# Altium footprint library FPC0.5.PcbLib: 38 footprints (part 1 of 3)
Each footprint in its own frame and in the unit in brackets; x right, y up, seen from the top. Pads: shape width x height; smd on the part's side, far side on the other; paste and mask are expansions set on the pad; w line width, h text height; cw(c..) or ccw(c..) is an arc to the next point about the centre after c.
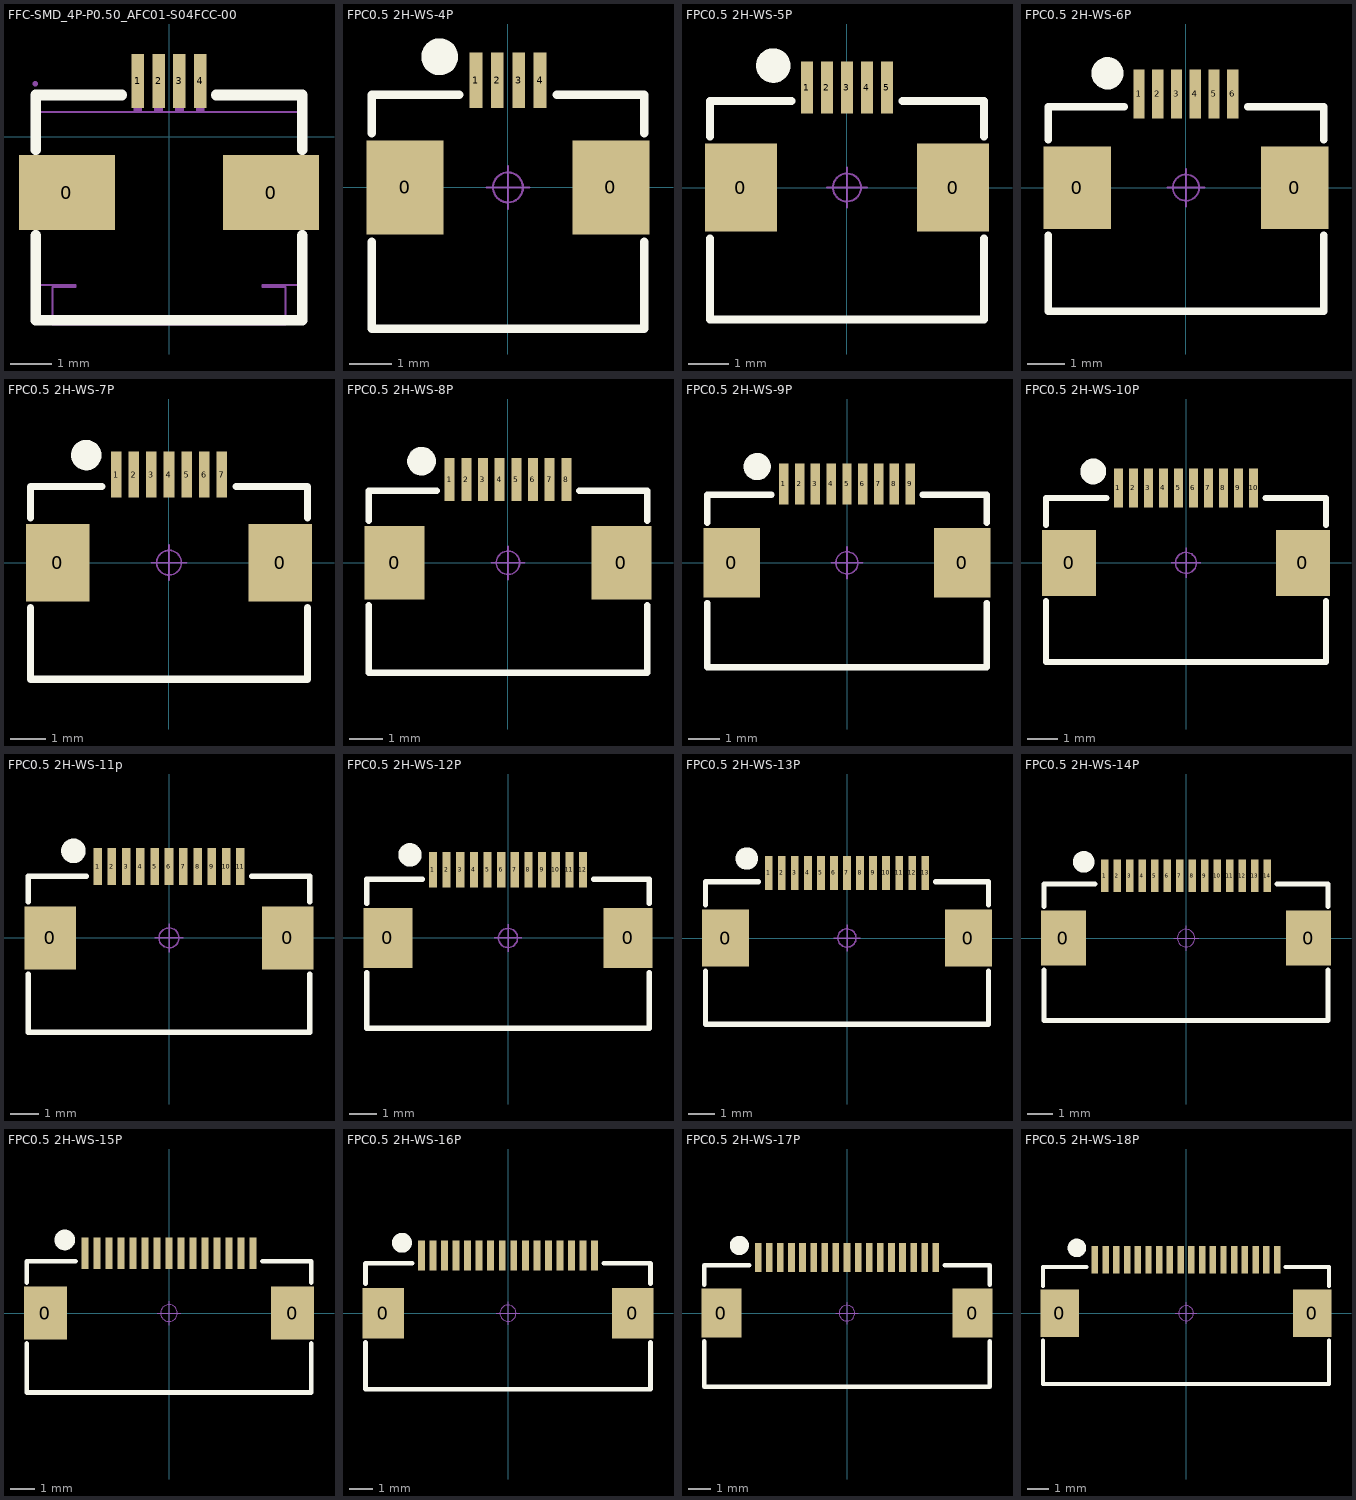
[diagram p0: the footprints below, top view; thin cyan lines are the x and y axes]

## FFC-SMD_4P-P0.50_AFC01-S04FCC-00 [mm]
pads (6):
  rect 2.3x1.8 smd: 0(-2.45,-1.34) 0(2.45,-1.34)
  rect 0.3x1.3 smd paste+0 mask+0.05: 1(-0.75,1.34) 2(-0.25,1.34) 3(0.25,1.34) 4(0.75,1.34)
Top Overlay:
  lines w0.254: -3.2,-2.371 -3.2,-4.4 3.2,-4.4 3.2,-2.371 ; -3.2,-0.309 -3.2,1 -1.131,1 ; 1.131,1 3.2,1 3.2,-0.309
Mechanical 15:
  region: -3.15,1.27 -3.15,1.295 -3.185,1.33 -3.235,1.33 -3.27,1.295 -3.27,1.27 -3.27,1.245 -3.235,1.21 -3.185,1.21 -3.15,1.245
  region: -0.65,1.27 -0.85,1.27 -0.85,0.58 -0.65,0.58
  region: -0.15,1.27 -0.35,1.27 -0.35,0.58 -0.15,0.58
  region: 0.35,1.27 0.15,1.27 0.15,0.58 0.35,0.58
  region: 0.85,1.27 0.65,1.27 0.65,0.58 0.85,0.58
  region: -1.99,-1.71 -3.2,-1.71 -3.21,-0.8 -1.99,-0.8
  region: 1.99,-0.97 3.2,-0.97 3.21,-1.88 1.99,-1.88
  lines w0.051: -3.2,-3.56 -2.25,-3.56 -2.25,-3.61 -2.8,-3.61 -2.8,-4.5 2.8,-4.5 2.8,-3.61 2.25,-3.61 2.25,-3.56 2.8,-3.56 3.2,-3.56 3.2,0.59 -3.2,0.59 -3.2,0.58 -3.2,-3.56

## FPC0.5 2H-WS-4P [mm] "长：6.2mm，宽：5.2mm，高：2mm"
pads (6):
  rect 1.8x2.2 smd: 0(-2.4,0) 0(2.4,0)
  rect 0.3x1.3 smd: 1(-0.75,2.497) 2(-0.25,2.497) 3(0.25,2.497) 4(0.75,2.497)
Top Overlay:
  circle w0.5: c-1.594,3.048 r0.18
  lines w0.2: -3.175,-1.27 -3.175,-3.302 3.175,-3.302 3.175,-1.27 ; -3.175,1.27 -3.175,2.159 -1.143,2.159 ; 1.143,2.159 3.175,2.159 3.175,1.27
Mechanical 15:
  circle w0.05: c0,0 r0.35
  lines w0.05: -0.5,0 0.5,0 ; 0,-0.5 0,0.5
3D body "FPC0.5 2H-S-W-4P.STEP": height 2, standoff -0.01, extent -3.1,-3.15 3.1,2.85

## FPC0.5 2H-WS-5P [mm] "长：6.7mm，宽：5.2mm，高：2mm"
pads (7):
  rect 1.8x2.2 smd: 0(-2.65,0) 0(2.65,0)
  rect 0.3x1.3 smd: 1(-1,2.497) 2(-0.5,2.497) 3(0,2.497) 4(0.5,2.497) 5(1,2.497)
Top Overlay:
  circle w0.5: c-1.844,3.048 r0.18
  lines w0.2: -3.425,-1.27 -3.425,-3.302 3.425,-3.302 3.425,-1.27 ; -3.425,1.27 -3.425,2.159 -1.393,2.159 ; 1.393,2.159 3.425,2.159 3.425,1.27
Mechanical 15:
  circle w0.05: c0,0 r0.35
  lines w0.05: -0.5,0 0.5,0 ; 0,-0.5 0,0.5
3D body "FPC0.5 2H-S-W-5P.STEP": height 2, standoff -0.01, extent -3.35,-3.15 3.35,2.85

## FPC0.5 2H-WS-6P [mm] "长：7.2mm，宽：5.2mm，高：2mm"
pads (8):
  rect 1.8x2.2 smd: 0(-2.9,0) 0(2.9,0)
  rect 0.3x1.3 smd: 1(-1.25,2.497) 2(-0.75,2.497) 3(-0.25,2.497) 4(0.25,2.497) 5(0.75,2.497) 6(1.25,2.497)
Top Overlay:
  circle w0.5: c-2.094,3.048 r0.18
  lines w0.2: -3.675,-1.27 -3.675,-3.302 3.675,-3.302 3.675,-1.27 ; -3.675,1.27 -3.675,2.159 -1.643,2.159 ; 1.643,2.159 3.675,2.159 3.675,1.27
Mechanical 15:
  circle w0.05: c0,0 r0.35
  lines w0.05: -0.5,0 0.5,0 ; 0,-0.5 0,0.5
3D body "FPC0.5 2H-S-W-6P.STEP": height 2, standoff -0.01, extent -3.6,-3.15 3.6,2.85

## FPC0.5 2H-WS-7P [mm] "长：7.7mm，宽：5.2mm，高：2mm"
pads (9):
  rect 1.8x2.2 smd: 0(-3.15,0) 0(3.15,0)
  rect 0.3x1.3 smd: 1(-1.5,2.497) 2(-1,2.497) 3(-0.5,2.497) 4(0,2.497) 5(0.5,2.497) 6(1,2.497) 7(1.5,2.497)
Top Overlay:
  circle w0.5: c-2.344,3.048 r0.18
  lines w0.2: -3.925,-1.27 -3.925,-3.302 3.925,-3.302 3.925,-1.27 ; -3.925,1.27 -3.925,2.159 -1.893,2.159 ; 1.893,2.159 3.925,2.159 3.925,1.27
Mechanical 15:
  circle w0.05: c0,0 r0.35
  lines w0.05: -0.5,0 0.5,0 ; 0,-0.5 0,0.5
3D body "FPC0.5 2H-S-W-7P.STEP": height 2, standoff -0.01, extent -3.85,-3.15 3.85,2.85

## FPC0.5 2H-WS-8P [mm] "长：8.2mm，宽：5.2mm，高：2mm"
pads (10):
  rect 1.8x2.2 smd: 0(-3.4,0) 0(3.4,0)
  rect 0.3x1.3 smd: 1(-1.75,2.497) 2(-1.25,2.497) 3(-0.75,2.497) 4(-0.25,2.497) 5(0.25,2.497) 6(0.75,2.497) 7(1.25,2.497) 8(1.75,2.497)
Top Overlay:
  circle w0.5: c-2.594,3.048 r0.18
  lines w0.2: -4.175,-1.27 -4.175,-3.302 4.175,-3.302 4.175,-1.27 ; -4.175,1.27 -4.175,2.159 -2.143,2.159 ; 2.143,2.159 4.175,2.159 4.175,1.27
Mechanical 15:
  circle w0.05: c0,0 r0.35
  lines w0.05: -0.5,0 0.5,0 ; 0,-0.5 0,0.5
3D body "FPC0.5 2H-S-W-8P.STEP": height 2, standoff -0.01, extent -4.1,-3.15 4.1,2.85

## FPC0.5 2H-WS-9P [mm] "长：8.7mm，宽：5.2mm，高：2mm"
pads (11):
  rect 1.8x2.2 smd: 0(-3.65,0) 0(3.65,0)
  rect 0.3x1.3 smd: 1(-2,2.497) 2(-1.5,2.497) 3(-1,2.497) 4(-0.5,2.497) 5(0,2.497) 6(0.5,2.497) 7(1,2.497) 8(1.5,2.497) 9(2,2.497)
Top Overlay:
  circle w0.5: c-2.844,3.048 r0.18
  lines w0.2: -4.425,-1.27 -4.425,-3.302 4.425,-3.302 4.425,-1.27 ; -4.425,1.27 -4.425,2.159 -2.393,2.159 ; 2.393,2.159 4.425,2.159 4.425,1.27
Mechanical 15:
  circle w0.05: c0,0 r0.35
  lines w0.05: -0.5,0 0.5,0 ; 0,-0.5 0,0.5
3D body "FPC0.5 2H-S-W-9P.STEP": height 2, standoff -0.01, extent -4.35,-3.15 4.35,2.85

## FPC0.5 2H-WS-10P [mm] "长：9.2mm，宽：5.2mm，高：2mm"
pads (12):
  rect 1.8x2.2 smd: 0(-3.9,0) 0(3.9,0)
  rect 0.3x1.3 smd: 1(-2.25,2.497) 2(-1.75,2.497) 3(-1.25,2.497) 4(-0.75,2.497) 5(-0.25,2.497) 6(0.25,2.497) 7(0.75,2.497) 8(1.25,2.497) 9(1.75,2.497) 10(2.25,2.497)
Top Overlay:
  circle w0.5: c-3.094,3.048 r0.18
  lines w0.2: -4.675,-1.27 -4.675,-3.302 4.675,-3.302 4.675,-1.27 ; -4.675,1.27 -4.675,2.159 -2.643,2.159 ; 2.643,2.159 4.675,2.159 4.675,1.27
Mechanical 15:
  circle w0.05: c0,0 r0.35
  lines w0.05: -0.5,0 0.5,0 ; 0,-0.5 0,0.5
3D body "FPC0.5 2H-S-W-10P.STEP": height 2, standoff -0.01, extent -4.6,-3.15 4.6,2.85

## FPC0.5 2H-WS-11p [mm] "长：9.7mm，宽：5.2mm，高：2mm"
pads (13):
  rect 1.8x2.2 smd: 0(-4.15,0) 0(4.15,0)
  rect 0.3x1.3 smd: 1(-2.5,2.497) 2(-2,2.497) 3(-1.5,2.497) 4(-1,2.497) 5(-0.5,2.497) 6(0,2.497) 7(0.5,2.497) 8(1,2.497) 9(1.5,2.497) 10(2,2.497) 11(2.5,2.497)
Top Overlay:
  circle w0.5: c-3.344,3.048 r0.18
  lines w0.2: -4.925,-1.27 -4.925,-3.302 4.925,-3.302 4.925,-1.27 ; -4.925,1.27 -4.925,2.159 -2.893,2.159 ; 2.893,2.159 4.925,2.159 4.925,1.27
Mechanical 15:
  circle w0.05: c0,0 r0.35
  lines w0.05: -0.5,0 0.5,0 ; 0,-0.5 0,0.5
3D body "FPC0.5 2H-S-W-11P.STEP": height 2, standoff -0.01, extent -4.85,-3.15 4.85,2.85

## FPC0.5 2H-WS-12P [mm] "长：10.2mm，宽：5.2mm，高：2mm"
pads (14):
  rect 1.8x2.2 smd: 0(-4.4,0) 0(4.4,0)
  rect 0.3x1.3 smd: 1(-2.75,2.497) 2(-2.25,2.497) 3(-1.75,2.497) 4(-1.25,2.497) 5(-0.75,2.497) 6(-0.25,2.497) 7(0.25,2.497) 8(0.75,2.497) 9(1.25,2.497) 10(1.75,2.497) 11(2.25,2.497) 12(2.75,2.497)
Top Overlay:
  circle w0.5: c-3.594,3.048 r0.18
  lines w0.2: -5.175,-1.27 -5.175,-3.302 5.175,-3.302 5.175,-1.27 ; -5.175,1.27 -5.175,2.159 -3.143,2.159 ; 3.143,2.159 5.175,2.159 5.175,1.27
Mechanical 15:
  circle w0.05: c0,0 r0.35
  lines w0.05: -0.5,0 0.5,0 ; 0,-0.5 0,0.5
3D body "FPC0.5 2H-S-W-12P.STEP": height 2, standoff -0.01, extent -5.1,-3.15 5.1,2.85

## FPC0.5 2H-WS-13P [mm] "长：10.7mm，宽：5.2mm，高：2mm"
pads (15):
  rect 1.8x2.2 smd: 0(-4.65,0) 0(4.65,0)
  rect 0.3x1.3 smd: 1(-3,2.497) 2(-2.5,2.497) 3(-2,2.497) 4(-1.5,2.497) 5(-1,2.497) 6(-0.5,2.497) 7(0,2.497) 8(0.5,2.497) 9(1,2.497) 10(1.5,2.497) 11(2,2.497) 12(2.5,2.497) 13(3,2.497)
Top Overlay:
  circle w0.5: c-3.844,3.048 r0.18
  lines w0.2: -5.425,-1.27 -5.425,-3.302 5.425,-3.302 5.425,-1.27 ; -5.425,1.27 -5.425,2.159 -3.393,2.159 ; 3.393,2.159 5.425,2.159 5.425,1.27
Mechanical 15:
  circle w0.05: c0,0 r0.35
  lines w0.05: -0.5,0 0.5,0 ; 0,-0.5 0,0.5
3D body "FPC0.5 2H-S-W-13P.STEP": height 2, standoff -0.01, extent -5.35,-3.15 5.35,2.85

## FPC0.5 2H-WS-14P [mm] "长：11.2mm，宽：5.2mm，高：2mm"
pads (16):
  rect 1.8x2.2 smd: 0(-4.9,0) 0(4.9,0)
  rect 0.3x1.3 smd: 1(-3.25,2.497) 2(-2.75,2.497) 3(-2.25,2.497) 4(-1.75,2.497) 5(-1.25,2.497) 6(-0.75,2.497) 7(-0.25,2.497) 8(0.25,2.497) 9(0.75,2.497) 10(1.25,2.497) 11(1.75,2.497) 12(2.25,2.497) 13(2.75,2.497) 14(3.25,2.497)
Top Overlay:
  circle w0.5: c-4.094,3.048 r0.18
  lines w0.2: -5.675,-1.27 -5.675,-3.302 5.675,-3.302 5.675,-1.27 ; -5.675,1.27 -5.675,2.159 -3.643,2.159 ; 3.643,2.159 5.675,2.159 5.675,1.27
Mechanical 15:
  circle w0.05: c0,0 r0.35
  lines w0.05: -0.5,0 0.5,0 ; 0,-0.5 0,0.5
3D body "FPC0.5 2H-S-W-14P.STEP": height 2, standoff -0.01, extent -5.6,-3.15 5.6,2.85

## FPC0.5 2H-WS-15P [mm] "长：11.7mm，宽：5.2mm，高：2mm"
pads (17):
  rect 1.8x2.2 smd: 0(-5.15,0) 0(5.15,0)
  rect 0.3x1.3 smd: 1(-3.5,2.497) 2(-3,2.497) 3(-2.5,2.497) 4(-2,2.497) 5(-1.5,2.497) 6(-1,2.497) 7(-0.5,2.497) 8(0,2.497) 9(0.5,2.497) 10(1,2.497) 11(1.5,2.497) 12(2,2.497) 13(2.5,2.497) 14(3,2.497) 15(3.5,2.497)
Top Overlay:
  circle w0.5: c-4.344,3.048 r0.18
  lines w0.2: -5.925,-1.27 -5.925,-3.302 5.925,-3.302 5.925,-1.27 ; -5.925,1.27 -5.925,2.159 -3.893,2.159 ; 3.893,2.159 5.925,2.159 5.925,1.27
Mechanical 15:
  circle w0.05: c0,0 r0.35
  lines w0.05: -0.5,0 0.5,0 ; 0,-0.5 0,0.5
3D body "FPC0.5 2H-S-W-15P.STEP": height 2, standoff -0.01, extent -5.85,-3.15 5.85,2.85

## FPC0.5 2H-WS-16P [mm] "长：12.2mm，宽：5.2mm，高：2mm"
pads (18):
  rect 1.8x2.2 smd: 0(-5.4,0) 0(5.4,0)
  rect 0.3x1.3 smd: 1(-3.75,2.497) 2(-3.25,2.497) 3(-2.75,2.497) 4(-2.25,2.497) 5(-1.75,2.497) 6(-1.25,2.497) 7(-0.75,2.497) 8(-0.25,2.497) 9(0.25,2.497) 10(0.75,2.497) 11(1.25,2.497) 12(1.75,2.497) 13(2.25,2.497) 14(2.75,2.497) 15(3.25,2.497) 16(3.75,2.497)
Top Overlay:
  circle w0.5: c-4.594,3.048 r0.18
  lines w0.2: -6.175,-1.27 -6.175,-3.302 6.175,-3.302 6.175,-1.27 ; -6.175,1.27 -6.175,2.159 -4.143,2.159 ; 4.143,2.159 6.175,2.159 6.175,1.27
Mechanical 15:
  circle w0.05: c0,0 r0.35
  lines w0.05: -0.5,0 0.5,0 ; 0,-0.5 0,0.5
3D body "FPC0.5 2H-S-W-16P.STEP": height 2, standoff -0.01, extent -6.1,-3.15 6.1,2.85

## FPC0.5 2H-WS-17P [mm] "长：12.7mm，宽：5.2mm，高：2mm"
pads (19):
  rect 1.8x2.2 smd: 0(-5.65,0) 0(5.65,0)
  rect 0.3x1.3 smd: 1(-4,2.497) 2(-3.5,2.497) 3(-3,2.497) 4(-2.5,2.497) 5(-2,2.497) 6(-1.5,2.497) 7(-1,2.497) 8(-0.5,2.497) 9(0,2.497) 10(0.5,2.497) 11(1,2.497) 12(1.5,2.497) 13(2,2.497) 14(2.5,2.497) 15(3,2.497) 16(3.5,2.497) 17(4,2.497)
Top Overlay:
  circle w0.5: c-4.844,3.048 r0.18
  lines w0.2: -6.425,-1.27 -6.425,-3.302 6.425,-3.302 6.425,-1.27 ; -6.425,1.27 -6.425,2.159 -4.393,2.159 ; 4.393,2.159 6.425,2.159 6.425,1.27
Mechanical 15:
  circle w0.05: c0,0 r0.35
  lines w0.05: -0.5,0 0.5,0 ; 0,-0.5 0,0.5
3D body "FPC0.5 2H-S-W-17P.STEP": height 2, standoff -0.01, extent -6.35,-3.15 6.35,2.85

## FPC0.5 2H-WS-18P [mm] "长：13.2mm，宽：5.2mm，高：2mm"
pads (20):
  rect 1.8x2.2 smd: 0(-5.9,0) 0(5.9,0)
  rect 0.3x1.3 smd: 1(-4.25,2.497) 2(-3.75,2.497) 3(-3.25,2.497) 4(-2.75,2.497) 5(-2.25,2.497) 6(-1.75,2.497) 7(-1.25,2.497) 8(-0.75,2.497) 9(-0.25,2.497) 10(0.25,2.497) 11(0.75,2.497) 12(1.25,2.497) 13(1.75,2.497) 14(2.25,2.497) 15(2.75,2.497) 16(3.25,2.497) 17(3.75,2.497) 18(4.25,2.497)
Top Overlay:
  circle w0.5: c-5.094,3.048 r0.18
  lines w0.2: -6.675,-1.27 -6.675,-3.302 6.675,-3.302 6.675,-1.27 ; -6.675,1.27 -6.675,2.159 -4.643,2.159 ; 4.643,2.159 6.675,2.159 6.675,1.27
Mechanical 15:
  circle w0.05: c0,0 r0.35
  lines w0.05: -0.5,0 0.5,0 ; 0,-0.5 0,0.5
3D body "FPC0.5 2H-S-W-18P.STEP": height 2, standoff -0.01, extent -6.6,-3.15 6.6,2.85